# Altium footprint library PQFN8_5x6.PcbLib: 1 footprints
Each footprint in its own frame and in the unit in brackets; x right, y up, seen from the top. Pads: shape width x height; smd on the part's side, far side on the other; paste and mask are expansions set on the pad; w line width, h text height; cw(c..) or ccw(c..) is an arc to the next point about the centre after c.
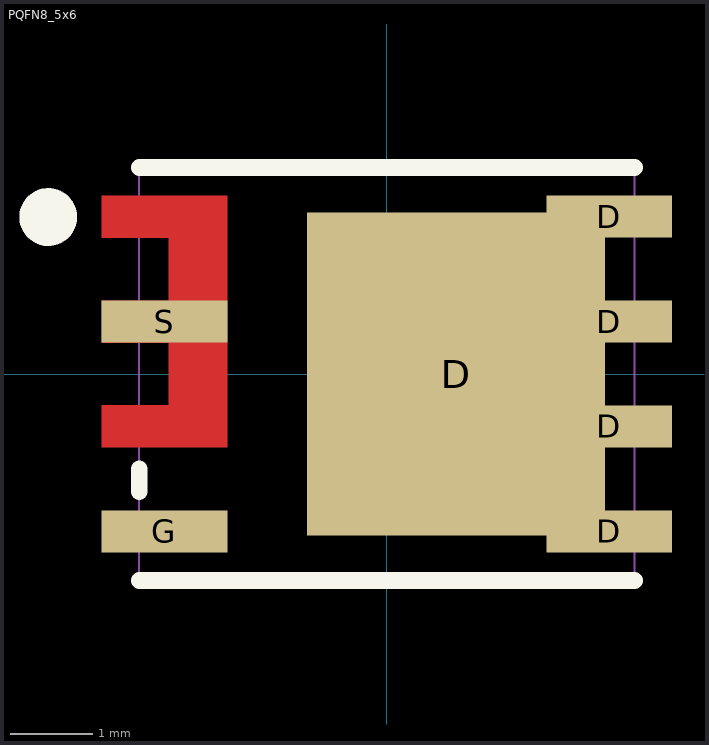
[diagram p0: the footprint, top view; thin cyan lines are the x and y axes]

## PQFN8_5x6 [mil]
pads (7):
  rect 142x154 smd: D(33,0)
  rect 60x20 smd: D(106,-75) D(106,-25) D(106,25) D(106,75) G(-106,-75)
  rect 60x20 smd paste+0 mask+0: S(-106,25)
Top Layer:
  region: -136,85 -136,65 -104,65 -104,35 -136,35 -136,15 -104,15 -104,-15 -136,-15 -136,-35 -76,-35 -76,85
Top Overlay:
  circle w15.75: c-161.42,74.8 r5.91
  lines w7.87: -118.11,-98.43 118.11,-98.43 ; -118.11,-56.1 -118.11,-45.28 ; -118.11,98.43 118.11,98.43
Mechanical 13:
  lines w1: -118.11,-98.43 -118.11,98.43 118.11,98.43 118.11,-98.43 -118.11,-98.43
3D body: height 35.43, standoff -0.04, extent -118.11,-98.43 118.89,98.43